# EAGLE library part CH340G (library CH340G)
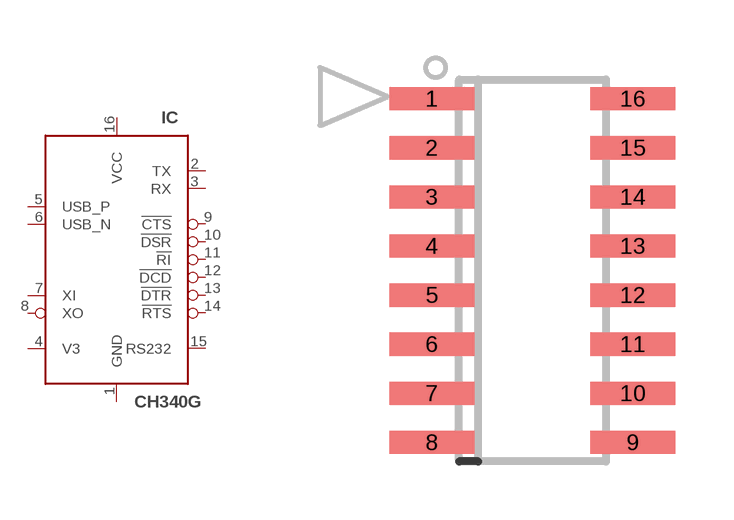
[diagram p0: symbol with the pads of SOIC16N; footprint SOIC16N]

Designator prefix IC

## CH340G  [SOIC16N]
1  GND  in
2  TX  out
3  RX  in
4  V3  out
5  USB_P
6  USB_N
7  XI  in
8  XO  out
9  !CTS  in
10  !DSR  in
11  !RI  in
12  !DCD  in
13  !DTR  out
14  !RTS  out
15  RS232  in
16  VCC  in

## Footprint SOIC16N (pad centres in mm)
SMALL OUTLINE INTEGRATED CIRCUIT
smd 2.2 x 0.6: 1 -2.6,4.445; 2 -2.6,3.175; 3 -2.6,1.905; 4 -2.6,0.635; 5 -2.6,-0.635; 6 -2.6,-1.905; 7 -2.6,-3.175; 8 -2.6,-4.445; 9 2.6,-4.445; 10 2.6,-3.175; 11 2.6,-1.905; 12 2.6,-0.635; 13 2.6,0.635; 14 2.6,1.905; 15 2.6,3.175; 16 2.6,4.445